# Altium footprint library Connectors RF.PcbLib: 3 footprints
Each footprint in its own frame and in the unit in brackets; x right, y up, seen from the top. Pads: shape width x height; smd on the part's side, far side on the other; paste and mask are expansions set on the pad; w line width, h text height; cw(c..) or ccw(c..) is an arc to the next point about the centre after c.
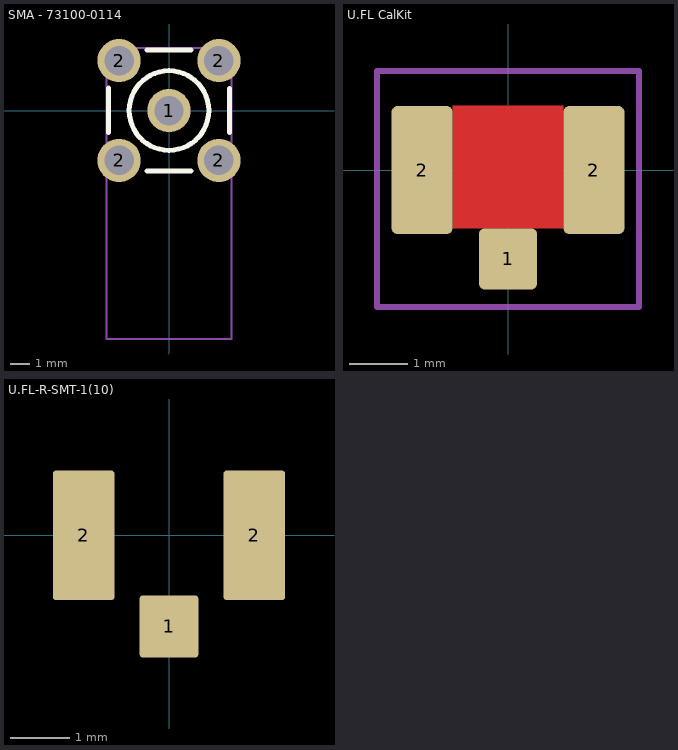
[diagram p0: the footprints below, top view; thin cyan lines are the x and y axes]

## SMA - 73100-0114 [mm] "SMA Angled"
pads (5):
  round 2.2 hole 1.5: 1(0,0) 2(-2.54,-2.54) 2(-2.54,2.54) 2(2.54,-2.54) 2(2.54,2.54)
Top Overlay:
  circle w0.254: c0,0 r2.025
  lines w0.254: -3.075,-1.125 -3.075,1.15 ; -1.125,-3.075 1.125,-3.075 ; -1.125,3.075 1.125,3.075 ; 3.075,-1.125 3.075,1.125
Mechanical 13:
  lines w0.1: -3.175,-11.625 -3.175,3.175 3.175,3.175 3.175,-11.625 -3.175,-11.625
3D body: height 9.57, standoff -3.93, extent -3.175,-11.625 3.175,3.175

## U.FL CalKit [mm] "U.FL-R-SMT-1(10)"
height 1.25
pads (3):
  rrect20% 1x1.05 smd: 1(0,-1.525)
  rrect20% 1.05x2.2 smd: 2(-1.475,0) 2(1.475,0)
Top Layer:
  pour cut-out: -0.95,1.1 0.95,1.1 0.95,-1 -0.95,-1
Mechanical 15:
  lines w0.1: -0.25,0 0.25,0 ; 0,-0.25 0,0.25 ; -2.25,-2.35 -2.25,1.7 2.25,1.7 2.25,-2.35 -2.25,-2.35
3D body: height 1.35, standoff 0, extent -1.45,-1.45 1.45,1.45

## U.FL-R-SMT-1(10) [mm] "U.FL-R-SMT-1(10)"
height 1.25
pads (3):
  rrect10% 1x1.05 smd: 1(0,-1.55)
  rrect10% 1.05x2.2 smd: 2(-1.45,0) 2(1.45,0)
3D body: height 1.35, standoff 0, extent -1.45,-1.45 1.45,1.45